# Altium schematic symbol library USB_SPI_Flash.SchLib: 2 symbols
Pins are listed as number, name and electrical type; pins without a type are passive.

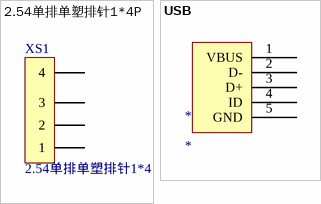
[diagram p0: symbols 2.54单排单塑排针1*4P to USB]

## 2.54单排单塑排针1*4P
designator XS1
footprint PIN4
pins: 1, 2, 3, 4

## USB
designator *
footprint GOLDFIGER_FPC_4
pins: 1 VBUS, 2 D-, 3 D+, 4 ID, 5 GND